# Altium footprint library MPRLS0300.PcbLib: 3 footprints
Each footprint in its own frame and in the unit in brackets; x right, y up, seen from the top. Pads: shape width x height; smd on the part's side, far side on the other; paste and mask are expansions set on the pad; w line width, h text height; cw(c..) or ccw(c..) is an arc to the next point about the centre after c.
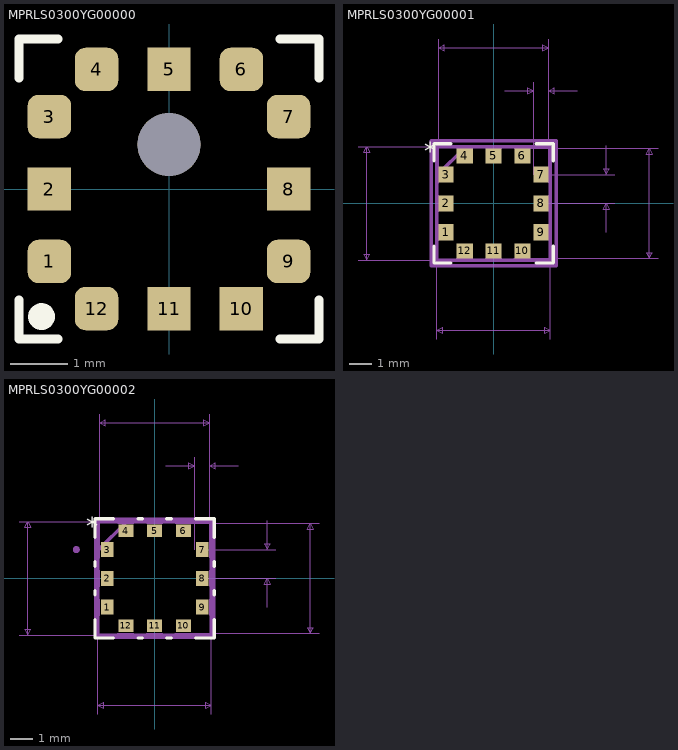
[diagram p0: the footprints below, top view; thin cyan lines are the x and y axes]

## MPRLS0300YG00000 [mil]
pads (13):
  rrect50% 30x30 smd: 1(-82.47,-50) 3(-82.47,50) 4(-50,82.47) 6(50,82.47) 7(82.47,50) 9(82.47,-50) 12(-50,-82.47)
  rect 30x30 smd: 2(-82.47,0) 5(0,82.47) 8(82.47,0) 10(50,-82.47) 11(0,-82.47)
  round 43.31 hole 43.31: ""(0,30.71)
Top Overlay:
  circle w10: c-88,-88 r4.24
  lines w6: -103.5,-76.63 -103.5,-103.5 -76.63,-103.5 ; -103.5,76.63 -103.5,103.5 -76.63,103.5 ; 76.63,-103.5 103.5,-103.5 103.5,-76.63 ; 76.63,103.5 103.5,103.5 103.5,76.63

## MPRLS0300YG00001 [mil]
pads (12):
  rect 26x28 all layers, no hole: 1(-82.47,-50) 2(-82.47,0) 3(-82.47,50) 7(82.47,50) 8(82.47,0) 9(82.47,-50)
  rect 28x26 all layers, no hole: 4(-50,82.47) 5(0,82.47) 6(50,82.47) 10(50,-82.47) 11(0,-82.47) 12(-50,-82.47)
Top Overlay:
  lines w6: -103.5,-74.35 -103.5,-103.5 -74.35,-103.5 ; -103.5,74.35 -103.5,103.5 -74.35,103.5 ; 74.35,-103.5 103.5,-103.5 103.5,-74.35 ; 74.35,103.5 103.5,103.5 103.5,74.35
  text "*" at -120.47,75 h31.25
Outline:
  lines w1: -98.5,48.5 -48.5,98.5 ; -98.5,-98.5 -98.5,98.5 98.5,98.5 98.5,-98.5 -98.5,-98.5 ; -98.5,-64 -95.47,-64 -95.47,-36 -98.5,-36 -98.5,-64 ; -98.5,-14 -95.47,-14 -95.47,14 -98.5,14 -98.5,-14 ; -98.5,36 -95.47,36 -95.47,64 -98.5,64 -98.5,36 ; -64,-98.5 -64,-95.47 -36,-95.47 -36,-98.5 -64,-98.5 ; -64,95.47 -64,98.5 -36,98.5 -36,95.47 -64,95.47 ; -14,-98.5 -14,-95.47 14,-95.47 14,-98.5 -14,-98.5 ; -14,95.47 -14,98.5 14,98.5 14,95.47 -14,95.47 ; 36,-98.5 36,-95.47 64,-95.47 64,-98.5 36,-98.5 ; 36,95.47 36,98.5 64,98.5 64,95.47 36,95.47 ; 95.47,-64 95.47,-36 98.5,-36 98.5,-64 95.47,-64 ; 95.47,-14 95.47,14 98.5,14 98.5,-14 95.47,-14 ; 95.47,36 95.47,64 98.5,64 98.5,36 95.47,36
  text "*" at -69.47,75 h31.25
Courtyard Bottom:
  lines w1: -235.47,-98.5 98.5,-98.5 ; -235.47,98.5 98.5,98.5 98.5,-235.47 ; -98.5,-235.47 -98.5,98.5 ; -95.47,50 -95.47,285.47 ; 19.47,195.47 69.47,195.47 ; 50,-95.47 285.47,-95.47 ; 50,95.47 285.47,95.47 ; 69.47,50 69.47,210.47 ; 82.47,0 210.47,0 ; 82.47,50 210.47,50 ; 95.47,210.47 95.47,50 95.47,285.47 ; 145.47,195.47 95.47,195.47 ; 195.47,-50 195.47,0 ; 195.47,100 195.47,50 ; -220.47,-98.5 -215.47,-88.5 -225.47,-88.5 -220.47,-98.5 ; -220.47,-98.5 -220.47,98.5 ; -220.47,98.5 -215.47,88.5 -225.47,88.5 -220.47,98.5 ; -98.5,-220.47 -88.5,-225.47 -88.5,-215.47 -98.5,-220.47 ; -98.5,-220.47 98.5,-220.47 ; -95.47,270.47 -85.47,265.47 -85.47,275.47 -95.47,270.47 ; -95.47,270.47 95.47,270.47 ; 69.47,195.47 59.47,190.47 59.47,200.47 69.47,195.47 ; 95.47,195.47 105.47,190.47 105.47,200.47 95.47,195.47 ; 95.47,270.47 85.47,265.47 85.47,275.47 95.47,270.47 ; 98.5,-220.47 88.5,-225.47 88.5,-215.47 98.5,-220.47 ; 195.47,0 200.47,-10 190.47,-10 195.47,0 ; 195.47,50 200.47,60 190.47,60 195.47,50 ; 270.47,-95.47 275.47,-85.47 265.47,-85.47 270.47,-95.47 ; 270.47,-95.47 270.47,95.47 ; 270.47,95.47 275.47,85.47 265.47,85.47 270.47,95.47
  lines w6: -98.5,48.5 -48.5,98.5 ; -108.5,-108.5 -74,-108.5 74,-108.5 108.5,-108.5 108.5,-74 108.5,74 108.5,108.5 74,108.5 -74,108.5 -108.5,108.5 -108.5,74 -108.5,-74 -108.5,-108.5 ; -98.5,-98.5 98.5,-98.5 98.5,98.5 -98.5,98.5 -98.5,-98.5
  text "0.197in/5.004mm" at 0,-240.47 h15.62
  text "0.197in/5.004mm" at -240.47,0 h15.62
  text "0.191in/4.85mm" at 290.47,0 h15.62
  text "0.191in/4.85mm" at 0,290.47 h15.62
  text "0.026in/0.66mm" at 82.47,215.47 h15.62
  text "0.05in/1.27mm" at 215.47,25 h15.62
  text "Alt 2 Padstyle: OX90Y60D30P" at 0,-595.47 h31.25
  text "Alt 1 Padstyle: OX60Y90D30P" at 0,-535.47 h31.25
  text "Default Padstyle: RX28Y26D0T" at 0,-355.47 h31.25

## MPRLS0300YG00002 [mil]
pads (12):
  rect 22x26 all layers, no hole: 1(-82.47,-50) 2(-82.47,0) 3(-82.47,50) 7(82.47,50) 8(82.47,0) 9(82.47,-50)
  rect 26x22 all layers, no hole: 4(-50,82.47) 5(0,82.47) 6(50,82.47) 10(50,-82.47) 11(0,-82.47) 12(-50,-82.47)
Top Overlay:
  lines w6: -103.5,-71.43 -103.5,-103.5 -71.43,-103.5 ; -103.5,-28.57 -103.5,-21.43 ; -103.5,21.43 -103.5,28.57 ; -103.5,71.43 -103.5,103.5 -71.43,103.5 ; -28.57,-103.5 -21.43,-103.5 ; -28.57,103.5 -21.43,103.5 ; 21.43,-103.5 28.57,-103.5 ; 21.43,103.5 28.57,103.5 ; 71.43,-103.5 103.5,-103.5 103.5,-71.43 ; 71.43,103.5 103.5,103.5 103.5,71.43 ; 103.5,-28.57 103.5,-21.43 ; 103.5,21.43 103.5,28.57
  text "*" at -118.47,75 h31.25
Outline:
  lines w1: -98.5,48.5 -48.5,98.5 ; -98.5,-98.5 -98.5,98.5 98.5,98.5 98.5,-98.5 -98.5,-98.5 ; -98.5,-64 -95.47,-64 -95.47,-36 -98.5,-36 -98.5,-64 ; -98.5,-14 -95.47,-14 -95.47,14 -98.5,14 -98.5,-14 ; -98.5,36 -95.47,36 -95.47,64 -98.5,64 -98.5,36 ; -64,-98.5 -64,-95.47 -36,-95.47 -36,-98.5 -64,-98.5 ; -64,95.47 -64,98.5 -36,98.5 -36,95.47 -64,95.47 ; -14,-98.5 -14,-95.47 14,-95.47 14,-98.5 -14,-98.5 ; -14,95.47 -14,98.5 14,98.5 14,95.47 -14,95.47 ; 36,-98.5 36,-95.47 64,-95.47 64,-98.5 36,-98.5 ; 36,95.47 36,98.5 64,98.5 64,95.47 36,95.47 ; 95.47,-64 95.47,-36 98.5,-36 98.5,-64 95.47,-64 ; 95.47,-14 95.47,14 98.5,14 98.5,-14 95.47,-14 ; 95.47,36 95.47,64 98.5,64 98.5,36 95.47,36
  text "*" at -71.47,75 h31.25
Courtyard Bottom:
  circle w6: c-135.97,50 r3
  lines w1: -235.47,-98.5 98.5,-98.5 ; -235.47,98.5 98.5,98.5 98.5,-235.47 ; -98.5,-235.47 -98.5,98.5 ; -95.47,50 -95.47,285.47 ; 19.47,195.47 69.47,195.47 ; 50,-95.47 285.47,-95.47 ; 50,95.47 285.47,95.47 ; 69.47,50 69.47,210.47 ; 82.47,0 210.47,0 ; 82.47,50 210.47,50 ; 95.47,210.47 95.47,50 95.47,285.47 ; 145.47,195.47 95.47,195.47 ; 195.47,-50 195.47,0 ; 195.47,100 195.47,50 ; -220.47,-98.5 -215.47,-88.5 -225.47,-88.5 -220.47,-98.5 ; -220.47,-98.5 -220.47,98.5 ; -220.47,98.5 -215.47,88.5 -225.47,88.5 -220.47,98.5 ; -98.5,-220.47 -88.5,-225.47 -88.5,-215.47 -98.5,-220.47 ; -98.5,-220.47 98.5,-220.47 ; -95.47,270.47 -85.47,265.47 -85.47,275.47 -95.47,270.47 ; -95.47,270.47 95.47,270.47 ; 69.47,195.47 59.47,190.47 59.47,200.47 69.47,195.47 ; 95.47,195.47 105.47,190.47 105.47,200.47 95.47,195.47 ; 95.47,270.47 85.47,265.47 85.47,275.47 95.47,270.47 ; 98.5,-220.47 88.5,-225.47 88.5,-215.47 98.5,-220.47 ; 195.47,0 200.47,-10 190.47,-10 195.47,0 ; 195.47,50 200.47,60 190.47,60 195.47,50 ; 270.47,-95.47 275.47,-85.47 265.47,-85.47 270.47,-95.47 ; 270.47,-95.47 270.47,95.47 ; 270.47,95.47 275.47,85.47 265.47,85.47 270.47,95.47
  lines w6: -98.5,48.5 -48.5,98.5 ; -102.5,-102.5 -67,-102.5 67,-102.5 102.5,-102.5 102.5,-67 102.5,67 102.5,102.5 67,102.5 -67,102.5 -102.5,102.5 -102.5,67 -102.5,-67 -102.5,-102.5 ; -98.5,-98.5 98.5,-98.5 98.5,98.5 -98.5,98.5 -98.5,-98.5
  text "0.197in/5.004mm" at 0,-240.47 h15.62
  text "0.197in/5.004mm" at -240.47,0 h15.62
  text "0.191in/4.85mm" at 290.47,0 h15.62
  text "0.191in/4.85mm" at 0,290.47 h15.62
  text "0.026in/0.66mm" at 82.47,215.47 h15.62
  text "0.05in/1.27mm" at 215.47,25 h15.62
  text "Alt 2 Padstyle: OX90Y60D30P" at 0,-593.47 h31.25
  text "Alt 1 Padstyle: OX60Y90D30P" at 0,-533.47 h31.25
  text "Default Padstyle: RX26Y22D0T" at 0,-353.47 h31.25